# EAGLE library part ESPRUINO_PICO_SMDONLY (library espruino_pico)
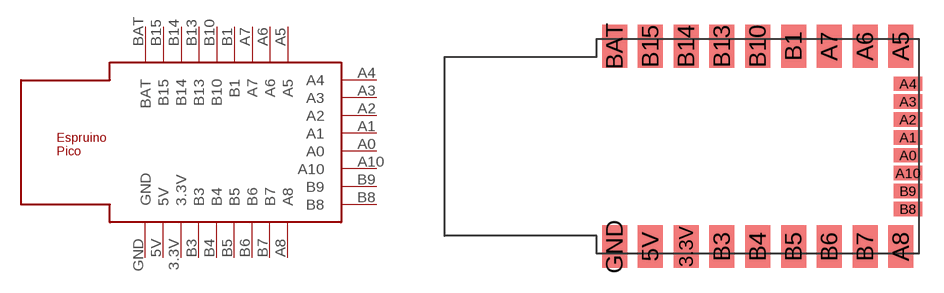
[diagram p3: symbol with the pads of ESPRUINO_PICO_SMDONLY; footprint ESPRUINO_PICO_SMDONLY]

Designator prefix -

## ESPRUINO_PICO_SMDONLY  [ESPRUINO_PICO_SMDONLY]
3.3V  3.3V
5V  5V
A0  A0
A1  A1
A2  A2
A3  A3
A4  A4
A5  A5
A6  A6
A7  A7
A8  A8
A10  A10
B1  B1
B3  B3
B4  B4
B5  B5
B6  B6
B7  B7
B8  B8
B9  B9
B10  B10
B13  B13
B14  B14
B15  B15
BAT  BAT
GND  GND

## Footprint ESPRUINO_PICO_SMDONLY (pad centres in mm)
smd 1.778 x 3.048: 3.3V -8.89,-7.112; 5V -11.43,-7.112; A5 6.35,7.112; A6 3.81,7.112; A7 1.27,7.112; A8 6.35,-7.112; B1 -1.27,7.112; B3 -6.35,-7.112; B4 -3.81,-7.112; B5 -1.27,-7.112; B6 1.27,-7.112; B7 3.81,-7.112; B10 -3.81,7.112; B13 -6.35,7.112; B14 -8.89,7.112; B15 -11.43,7.112; BAT -13.97,7.112; GND -13.97,-7.112
smd 2.032 x 1.016: A0 6.858,-0.635; A1 6.858,0.635; A2 6.858,1.905; A3 6.858,3.175; A4 6.858,4.445; A10 6.858,-1.905; B8 6.858,-4.445; B9 6.858,-3.175